# Altium schematic symbol library SCH - POWER - LINEAR VREG - TI LM9076Q-Q1_D_8.SchLib: 1 symbol
Pins are listed as number, name and electrical type; pins without a type are passive.

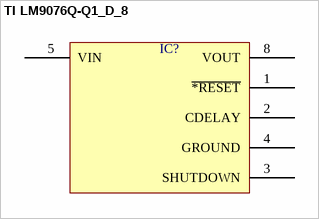
[diagram p0: symbol TI LM9076Q-Q1_D_8]

## TI LM9076Q-Q1_D_8
designator IC?  (value not drawn)
pins: 1 ~{*RESET}, 2 CDELAY, 3 SHUTDOWN, 4 GROUND, 5 VIN, 8 VOUT